# EAGLE library part S558-5999-M8-F (library KVB-transformers)
MODULE XFRMR LAN GIGABIT 24P SMD
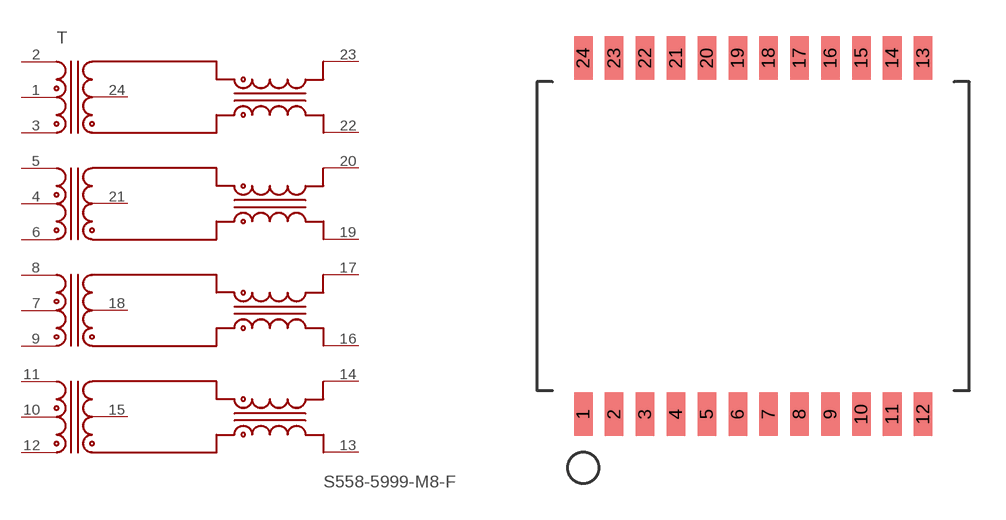
[diagram p0: symbol with the pads of S558-5999-M8-F; footprint S558-5999-M8-F]

Designator prefix T

## S558-5999-M8-F (MAN-PART_NUM: S558-5999-M8-F; MANUFACTURER: Bel Fuse Inc.)  [S558-5999-M8-F]
1  TCTD
2  TP0ND
3  TP0PD
4  TCTC
5  TP0NC
6  TP0PC
7  TCTB
8  TP0NB
9  TP0PB
10  TCTA
11  TP0NA
12  TP0PA
13  TX0PA
14  TX0NA
15  TXTA
16  TX0PB
17  TX0NB
18  TXTB
19  TX0PC
20  TX0NC
21  TXTC
22  TX0PD
23  TX0ND
24  TXTD

## Footprint S558-5999-M8-F (pad centres in mm)
smd 0.762 x 1.778: 1 -6.985,-7.328; 2 -5.715,-7.328; 3 -4.445,-7.328; 4 -3.175,-7.328; 5 -1.905,-7.328; 6 -0.635,-7.328; 7 0.635,-7.328; 8 1.905,-7.328; 9 3.175,-7.328; 10 4.445,-7.328; 11 5.715,-7.328; 12 6.985,-7.328; 13 6.985,7.328; 14 5.715,7.328; 15 4.445,7.328; 16 3.175,7.328; 17 1.905,7.328; 18 0.635,7.328; 19 -0.635,7.328; 20 -1.905,7.328; 21 -3.175,7.328; 22 -4.445,7.328; 23 -5.715,7.328; 24 -6.985,7.328